# Altium schematic symbol library SCH - DRIVER - LED - TI TPS92830-Q1PWP.SchLib: 1 symbol
Pins are listed as number, name and electrical type; pins without a type are passive.

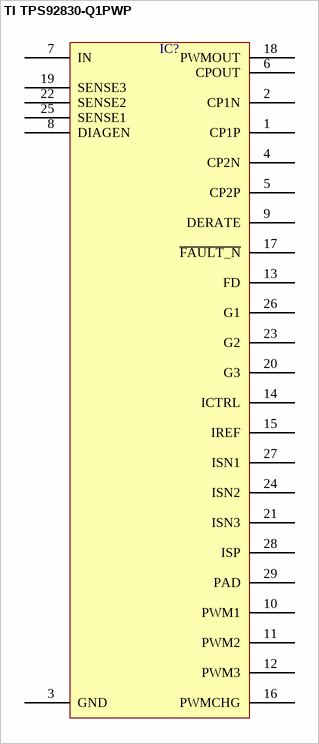
[diagram p0: symbol TI TPS92830-Q1PWP]

## TI TPS92830-Q1PWP
designator IC?  (value not drawn)
pins: 1 CP1P, 2 CP1N, 3 GND, 4 CP2N, 5 CP2P, 6 CPOUT, 7 IN, 8 DIAGEN, 9 DERATE, 10 PWM1, 11 PWM2, 12 PWM3, 13 FD, 14 ICTRL, 15 IREF, 16 PWMCHG, 17 ~{FAULT_N}, 18 PWMOUT, 19 SENSE3, 20 G3, 21 ISN3, 22 SENSE2, 23 G2, 24 ISN2, 25 SENSE1, 26 G1, 27 ISN1, 28 ISP, 29 PAD